# Altium footprint library Diode_SOT-723_2P_COMMON_ANODE_type1.PcbLib: 1 footprints
Each footprint in its own frame and in the unit in brackets; x right, y up, seen from the top. Pads: shape width x height; smd on the part's side, far side on the other; paste and mask are expansions set on the pad; w line width, h text height; cw(c..) or ccw(c..) is an arc to the next point about the centre after c.
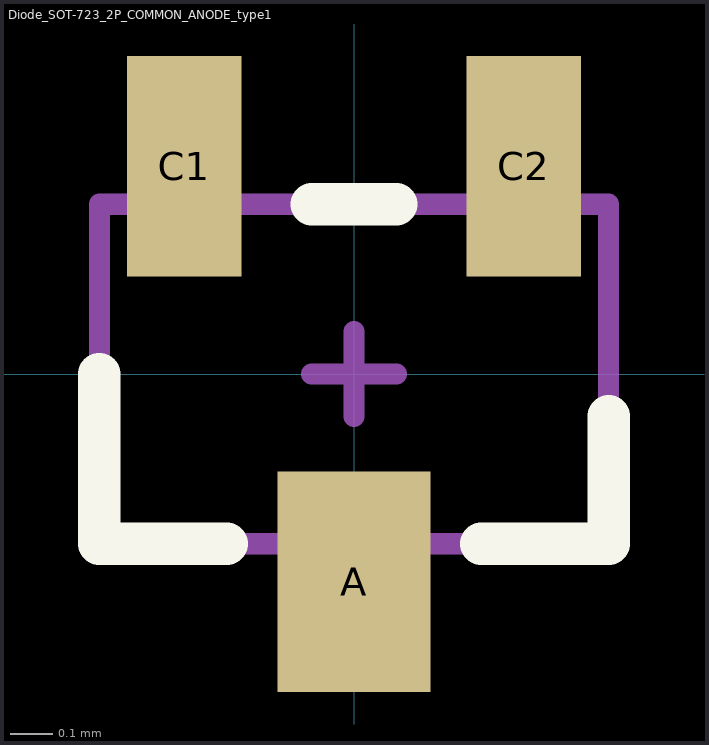
[diagram p0: the footprint, top view; thin cyan lines are the x and y axes]

## Diode_SOT-723_2P_COMMON_ANODE_type1 [mm] "Diode_SOT-723_2P_COMMON_ANODE_type1"
height 0.5
pads (3):
  rect 0.36x0.52 smd mask+0.05: A(0,-0.49)
  rect 0.27x0.52 smd mask+0.05: C1(-0.4,0.49) C2(0.4,0.49)
Top Overlay:
  lines w0.1: -0.6,0 -0.6,-0.4 -0.3,-0.4 ; -0.1,0.4 0.1,0.4 ; 0.3,-0.4 0.6,-0.4 0.6,-0.1
Top Assembly:
  lines w0.05: -0.6,-0.4 -0.6,0.4 0.6,0.4 0.6,-0.4 -0.6,-0.4
Top Designator:
  text ".Designator" at -0.9,-1.612 h1
Top Component Center:
  lines w0.05: -0.1,0 0.1,0 ; 0,-0.1 0,0.1
3D body "Diode_SOT-723_2P_Common_Anode_Type_1.step": height 0.45, standoff -0.01, extent -0.625,-0.525 0.625,0.525